# EAGLE library part SMALL_MAVRIC_CONN_RAIL_X8 (library small_mavric)
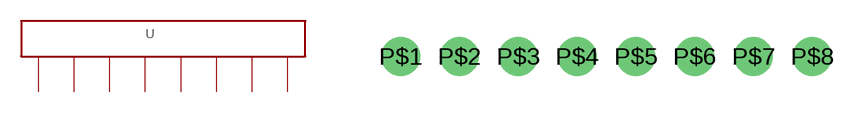
[diagram p8: symbol with the pads of SMALL_MAVRIC_CONN_RAIL_X8; footprint SMALL_MAVRIC_CONN_RAIL_X8]

Designator prefix -

## SMALL_MAVRIC_CONN_RAIL_X8  [SMALL_MAVRIC_CONN_RAIL_X8]
P$1  P$1
P$2  P$2
P$3  P$3
P$4  P$4
P$5  P$5
P$6  P$6
P$7  P$7
P$8  P$8

## Footprint SMALL_MAVRIC_CONN_RAIL_X8 (pad centres in mm)
drill 0.9 pad 1.676: P$1 -10.16,0; P$2 -7.62,0; P$3 -5.08,0; P$4 -2.54,0; P$5 0,0; P$6 2.54,0; P$7 5.08,0; P$8 7.62,0